# Altium schematic symbol library DiscreteSemiconductors.SchLib: 22 symbols (part 2 of 2)
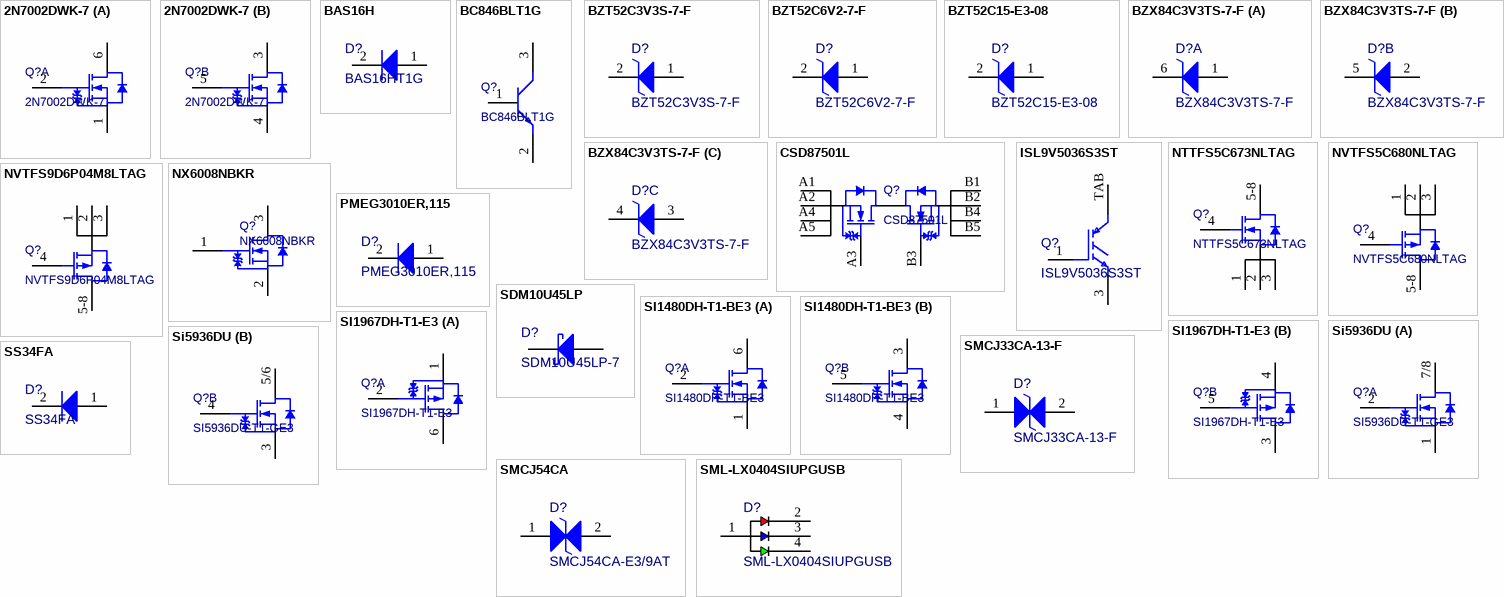
[diagram p1: symbols 2N7002DWK-7 to SS34FA]

## SDM10U45LP
designator D?, comment SDM10U45LP-7
DIODE SCHOTTKY 40V 100MA 2DFN / Rectifier Diode Schottky 45V 0.1A 2-Pin X1-DFN T/R; Manufacturer: Diodes Inc.; Value: 15pF; Element Configuration: Single; Forward Voltage: 550mV; Max Forward Surge Current (Ifsm): 1A; Max Power Dissipation: 250mW; Number of Elements: 1; Peak Reverse Current: 1µA; Polarity: Standard; Supplier 1: DigiKey; Supplier Part Number 1: SDM10U45LPDICT-ND; Supplier: DigiKey; Supplier Part Number: SDM10U45LPDICT-ND; Manufacturer Part Number: SDM10U45LP-7; RoHS: Compliant; Category: Schottky Diodes; Stock: 35493; Pricing: 1=0,42, 10=0,28, 100=0,2285, 500=0,17242, 1000=0,15127 (USD); Average Rectified Current: 100mA; Case/Package: DFN; China RoHS: Compliant; Current Rating: 100mA; Forward Current: 100mA; Height: 470µm; Lead Free: Lead Free; Length: 1mm; Lifecycle Status: Production; Max Operating Temperature: 125°C; Max Output current: 100mA; Max Repetitive Reverse Voltage (Vrrm): 45V; Max Reverse Voltage (DC): 40V; Min Operating Temperature: -40°C; Mounting Technology: Surface Mount; Pins: 2; Number of Terminals: 2; Output Current: 100mA; Packaging: Cut Tape; Peak Non-Repetitive Surge Current: 1A; Power Rating: 250mW; Radiation Hardening: No; REACH SVHC: Yes; Reverse Standoff Voltage: 45V; Schedule B: 8541100070, 8541100070|8541100070, 8541100070|8541100070|8541100070, 8541100070|8541100070|8541100070|8541100070; Voltage Rating (DC): 45V; Width: 600µm; ComponentLink1URL: https://datasheet.octopart.com:443/SDM10U45LP-7-Diodes-Inc.-datasheet-102813284.pdf?src-supplier=IHS; ComponentLink1Description: https://datasheet.octopart.com:443/SDM10U45LP-7-Diodes-Inc.-datasheet-102813284.pdf?src-supplier=IHS; ComponentLink2URL: https://datasheet.octopart.com/SDM10U45LP-7-Diodes-Inc.-datasheet-13703157.pdf; ComponentLink2Description: https://datasheet.octopart.com/SDM10U45LP-7-Diodes-Inc.-datasheet-13703157.pdf; ComponentLink3URL: https://datasheet.octopart.com:443/SDM10U45LP-7-Diodes-Inc.-datasheet-101745850.pdf?src-supplier=Future+Electronics; ComponentLink3Description: https://datasheet.octopart.com:443/SDM10U45LP-7-Diodes-Inc.-datasheet-101745850.pdf?src-supplier=Future+Electronics; ComponentLink4URL: https://sigma.octopart.com:443/138891837/technical_drawing/Diodes-Inc.-SDM10U45LP-7.pdf?src-supplier=Diodes+Inc+SCT; ComponentLink4Description: https://sigma.octopart.com:443/138891837/technical_drawing/Diodes-Inc.-SDM10U45LP-7.pdf?src-supplier=Diodes+Inc+SCT; ComponentLink5URL: https://datasheet.octopart.com:443/SDM10U45LP-7-Diodes-Inc.-datasheet-11796308.pdf?src-supplier=Arrow+Electronics; ComponentLink5Description: https://datasheet.octopart.com:443/SDM10U45LP-7-Diodes-Inc.-datasheet-11796308.pdf?src-supplier=Arrow+Electronics; ComponentLink6URL: https://datasheet.octopart.com:443/SDM10U45LP-7-Diodes-Inc.-datasheet-14053860.pdf?src-supplier=iiiC; ComponentLink6Description: https://datasheet.octopart.com:443/SDM10U45LP-7-Diodes-Inc.-datasheet-14053860.pdf?src-supplier=iiiC; ComponentLink7URL: https://datasheet.octopart.com:443/SDM10U45LP-7-Diodes-Inc.-datasheet-30023.pdf?src-supplier=DigiKey; ComponentLink7Description: https://datasheet.octopart.com:443/SDM10U45LP-7-Diodes-Inc.-datasheet-30023.pdf?src-supplier=DigiKey
footprint SOD-123 (SOD, 2-Leads, Body 2.69x1.6mm)
pins: 1, 2

## SI1480DH-T1-BE3
designator Q?
MOSFET N-CH 100V 2.1A/2.6A SC70; Manufacturer: Vishay; Supplier: Digikey; Supplier Part Number: 742-SI1480DH-T1-BE3CT-ND; Manufacturer Part Number: SI1480DH-T1-BE3; RoHS: No; Category: LDO; Stock: 2407; Pricing: 1=0,43, 10=0,335, 100=0,2723, 500=0,23268, 1000=0,20191 (USD); Supplier 1: Digikey; Supplier Part Number 1: 742-SI1480DH-T1-BE3CT-ND
footprint SOT-363 (6 pin, 2x2.1mm)
part A pins: 1 S1, 2 G1, 6 D1
part B pins: 3 D2, 4 S2, 5 G2

## SI1967DH-T1-E3
designator Q?
MOSFET 2P-CH 20V 1.3A SC70-6; Manufacturer: Vishay Siliconix; Rise Time: 27ns; Rds On Max: 490mR; Input Capacitance: 110pF; Gate to Source Voltage (Vgs): 8V; Max Power Dissipation: 1.25W; Turn-Off Delay Time: 15ns; Turn-On Delay Time: 12ns; Number of Channels: 2; Polarity: P-CHANNEL; Supplier 1: Digikey; Supplier Part Number 1: SI1967DH-T1-E3CT-ND; Supplier: Digikey; Supplier Part Number: SI1967DH-T1-E3CT-ND; Manufacturer Part Number: SI1967DH-T1-E3; RoHS: No; Category: MOSFETs; Stock: 6717; Pricing: 1=0,66, 10=0,409, 100=0,2622, 500=0,19876, 1000=0,16922 (USD); Mounting Technology: Surface Mount; Weight: 0.000988oz; Min Operating Temperature: -55°C; Max Operating Temperature: 150°C; Packaging: Tape and Reel; Package Quantity: 3000; Continuous Drain Current (ID): 1.3A; Drain to Source Resistance: 490mR; Fall Time: 27ns; Drain to Source Voltage (Vdss): 20V; Series: TrenchFET®; Length: 2mm; Width: 1.25mm; Height: 1mm; Radiation Hardening: No; Lead Free: Lead Free; RoHS Compliant: Yes; ComponentLink1URL: https://datasheet.ciiva.com/930/si1967dh-930084.pdf?src-supplier=Digikey; ComponentLink1Description: https://datasheet.ciiva.com/930/si1967dh-930084.pdf?src-supplier=Digikey; ComponentLink2URL: https://datasheet.ciiva.com/11161/si1967dh-11161099.pdf?src-supplier=Avnet; ComponentLink2Description: https://datasheet.ciiva.com/11161/si1967dh-11161099.pdf?src-supplier=Avnet
footprint SOT-363 (6 pin, 2x2.1mm)
part A pins: 1 S, 2 G, 6 D
part B pins: 3 D, 4 S, 5 G

## Si5936DU
designator Q?, comment SI5936DU-T1-GE3
SI5936DU-T1-GE3 Dual N-channel Mosfet Transistor, 6 A, 30V, 8-PIN Powerpak Chipfet; Manufacturer: Vishay; Continuous Drain Current (ID): 6A; Drain to Source Resistance: 30mΩ; Fall Time: 10ns; Gate to Source Voltage (Vgs): 20V; Input Capacitance: 320pF; Max Power Dissipation: 2.3W; Number of Elements: 2; Rise Time: 65ns; Turn-Off Delay Time: 15ns; Supplier 1: DigiKey; Supplier Part Number 1: SI5936DU-T1-GE3CT-ND; Supplier: DigiKey; Supplier Part Number: SI5936DU-T1-GE3CT-ND; Manufacturer Part Number: SI5936DU-T1-GE3; RoHS: Compliant; Category: MOSFETs; Stock: 5251; Pricing: 1=1,04, 10=0,651, 100=0,4257, 500=0,32864, 1000=0,29737 (USD); Contact Plating: Tin; Drain to Source Voltage (Vdss): 30V; Height: 850µm; Length: 3.08mm; Lifecycle Status: Production; Max Operating Temperature: 150°C; Min Breakdown Voltage: 30V; Min Operating Temperature: -55°C; Mounting Technology: Surface Mount; Pins: 8; Number of Terminals: 6; Packaging: Digi-Reel®; Power Dissipation: 2.3W; Rds On Max: 30mΩ; REACH SVHC: Yes; Schedule B: 8541290080, 8541290080|8541290080|8541290080|8541290080|8541290080; Turn-On Delay Time: 15ns; Width: 1.98mm; ComponentLink1URL: https://datasheet.octopart.com:443/SI5936DU-T1-GE3-Vishay-datasheet-181472184.pdf?src-supplier=IHS; ComponentLink1Description: https://datasheet.octopart.com:443/SI5936DU-T1-GE3-Vishay-datasheet-181472184.pdf?src-supplier=IHS; ComponentLink2URL: https://datasheet.octopart.com:443/SI5936DU-T1-GE3-Vishay-Siliconix-datasheet-62309622.pdf?src-supplier=RS+(Formerly+Allied+Electronics); ComponentLink2Description: https://datasheet.octopart.com:443/SI5936DU-T1-GE3-Vishay-Siliconix-datasheet-62309622.pdf?src-supplier=RS+(Formerly+Allied+Electronics); ComponentLink3URL: https://datasheet.octopart.com:443/SI5936DU-T1-GE3-Vishay-datasheet-41308924.pdf?src-supplier=Future+Electronics; ComponentLink3Description: https://datasheet.octopart.com:443/SI5936DU-T1-GE3-Vishay-datasheet-41308924.pdf?src-supplier=Future+Electronics; ComponentLink4URL: http://sigma.octopart.com:80/rohs_statement/Vishay-company-15.pdf?src-supplier=Compliance+Statements; ComponentLink4Description: http://sigma.octopart.com:80/rohs_statement/Vishay-company-15.pdf?src-supplier=Compliance+Statements
footprint ChipFET-8-dual (PowerPAK® ChipFET® Dual, 1.9x3mm)
part A pins: 1 S1, 2 G1, 7/8 D1
part B pins: 3 S2, 4 G2, 5/6 D2

## SMCJ33CA-13-F
designator D?
TVS DIODE 33VWM 53.3VC SMC; Manufacturer: Diodes; ComponentLink1URL: https://datasheet.ciiva.com/15143/getdatasheetpartid-128184-15143616.pdf?src-supplier=Verical; ComponentLink1Description: https://datasheet.ciiva.com/15143/getdatasheetpartid-128184-15143616.pdf?src-supplier=Verical; ComponentLink2URL: https://datasheet.ciiva.com/339/cd00001367-339200.pdf?src-supplier=Digi-Key; ComponentLink2Description: https://datasheet.ciiva.com/339/cd00001367-339200.pdf?src-supplier=Digi-Key; ComponentLink3URL: https://datasheet.ciiva.com/339/cd00001367-339201.pdf?src-supplier=Digi-Key; ComponentLink3Description: https://datasheet.ciiva.com/339/cd00001367-339201.pdf?src-supplier=Digi-Key; ComponentLink4URL: https://datasheet.ciiva.com/16349/cd00001367-16349254.pdf?src-supplier=Future+Electronics; ComponentLink4Description: https://datasheet.ciiva.com/16349/cd00001367-16349254.pdf?src-supplier=Future+Electronics; ComponentLink5URL: https://datasheet.ciiva.com/7973/cd00001367-7973623.pdf?src-supplier=Element14; ComponentLink5Description: https://datasheet.ciiva.com/7973/cd00001367-7973623.pdf?src-supplier=Element14; ComponentLink6URL: https://datasheet.ciiva.com/17400/cd00001367-17400765.pdf?src-supplier=Avnet+Europe; ComponentLink6Description: https://datasheet.ciiva.com/17400/cd00001367-17400765.pdf?src-supplier=Avnet+Europe; ComponentLink7URL: https://datasheet.ciiva.com/339/cd00001367-339199.pdf?src-supplier=Digi-Key; ComponentLink7Description: https://datasheet.ciiva.com/339/cd00001367-339199.pdf?src-supplier=Digi-Key; ComponentLink8URL: https://datasheet.ciiva.com/41443/001183976-da-01-en-transil-1500w-3-smcj30ca-tr-do-214ab-stm-41443381.pdf?src-supplier=Conrad; ComponentLink8Description: https://datasheet.ciiva.com/41443/001183976-da-01-en-transil-1500w-3-smcj30ca-tr-do-214ab-stm-41443381.pdf?src-supplier=Conrad; Supplier 1: Digikey; Supplier Part Number 1: SMCJ33CA-FDICT-ND; Supplier: Farnell; Supplier Part Number: 3405098; Manufacturer Part Number: SMCJ33CA-13-F; RoHS: Yes; Category: TVS Diodes; Stock: 3845; ComponentLink9URL: http://www.mouser.com/ds/2/115/ds19003-73575.pdf?src-supplier=Mouser; ComponentLink9Description: http://www.mouser.com/ds/2/115/ds19003-73575.pdf?src-supplier=Mouser; ComponentLink10URL: http://components.arrow.com/part/dataview/41510117S9851208N2867?src-supplier=Arrow+Electronics; ComponentLink10Description: http://components.arrow.com/part/dataview/41510117S9851208N2867?src-supplier=Arrow+Electronics; ComponentLink11URL: http://www.diodes.com/_files/datasheets/ds19003.pdf?src-supplier=Future+Electronics; ComponentLink11Description: http://www.diodes.com/_files/datasheets/ds19003.pdf?src-supplier=Future+Electronics; ComponentLink12URL: https://www.diodes.com/assets/Datasheets/ds19003.pdf?src-supplier=Digikey; ComponentLink12Description: https://www.diodes.com/assets/Datasheets/ds19003.pdf?src-supplier=Digikey; ComponentLink13URL: https://datasheet.octopart.com/SMCJ33CA-13-F-Diodes-Inc.-datasheet-6912.pdf?src-supplier=Digikey; ComponentLink13Description: https://datasheet.octopart.com/SMCJ33CA-13-F-Diodes-Inc.-datasheet-6912.pdf?src-supplier=Digikey; ComponentLink14URL: http://www.diodes.com///datasheets/ds19003.pdf?src-supplier=Avnet; ComponentLink14Description: http://www.diodes.com///datasheets/ds19003.pdf?src-supplier=Avnet; ComponentLink15URL: http://www.diodes.com//datasheets/ds19003.pdf?src-supplier=Avnet; ComponentLink15Description: http://www.diodes.com//datasheets/ds19003.pdf?src-supplier=Avnet; ComponentLink16URL: https://datasheet.octopart.com/SMCJ33CA-13-F-Diodes-Inc.-datasheet-130126529.pdf?src-supplier=TME; ComponentLink16Description: https://datasheet.octopart.com/SMCJ33CA-13-F-Diodes-Inc.-datasheet-130126529.pdf?src-supplier=TME
footprint SMCJ_UNIPOLAR (DO-214AB, SMC)
pins: 1, 2

## SMCJ54CA
designator D?, comment SMCJ54CA-E3/9AT
Trans Voltage Suppressor Diode, 1500W, 54V V(RWM), Bidirectional, 1 Element, Silicon, DO-214AB; Manufacturer: Vishay; Breakdown Voltage: 63.15V; Clamping Voltage: 87.1V; Element Configuration: Single; Leakage Current: 1µA; Max Breakdown Voltage: 66.3V; Max Junction Temperature (Tj): 150°C; Max Power Dissipation: 6.5W; Max Surge Current: 200A; Min Breakdown Voltage: 60V; Number of Bidirectional Channels: 1; Peak Pulse Current: 17.2A; Peak Pulse Power: 1.5kW; Power Line Protection: No; Test Current: 1mA; Supplier 1: DigiKey; Supplier Part Number 1: SMCJ54CA-E3/9AT-ND; Supplier: DigiKey; Supplier Part Number: SMCJ54CA-E3/9AT-ND; Manufacturer Part Number: SMCJ54CA-E3/9AT; RoHS: Compliant; Category: TVS Diodes; Pricing: 3500=0,181, 24500=0,1805 (USD); Case/Package: SMC; China RoHS: Non-Compliant; Composition: Zener; Direction: Bidirectional; Height: 2.62mm; Lifecycle Status: Production; Max Operating Temperature: 150°C; Max Reverse Leakage Current: 1µA; Min Operating Temperature: -55°C; Mounting Technology: Surface Mount; Number of Channels: 1; Number of Elements: 1; Pins: 2; Number of Terminals: 2; Operating Supply Voltage: 54V; Polarity: Bidirectional; REACH SVHC: No; Reverse Breakdown Voltage: 60V; Reverse Standoff Voltage: 54V; ComponentLink1URL: https://datasheet.octopart.com:443/SMCJ54CA-E3-9AT-Vishay-datasheet-164762082.pdf?src-supplier=IHS; ComponentLink1Description: https://datasheet.octopart.com:443/SMCJ54CA-E3-9AT-Vishay-datasheet-164762082.pdf?src-supplier=IHS; ComponentLink2URL: https://datasheet.octopart.com:443/SMCJ54CA-E3-9AT-Vishay-Semiconductor-datasheet-138899015.pdf?src-supplier=Upverter; ComponentLink2Description: https://datasheet.octopart.com:443/SMCJ54CA-E3-9AT-Vishay-Semiconductor-datasheet-138899015.pdf?src-supplier=Upverter; ComponentLink3URL: https://sigma.octopart.com:443/138898641/technical_drawing/Vishay-Semiconductor-SMCJ54CA-E3-9AT.pdf?src-supplier=Upverter; ComponentLink3Description: https://sigma.octopart.com:443/138898641/technical_drawing/Vishay-Semiconductor-SMCJ54CA-E3-9AT.pdf?src-supplier=Upverter; ComponentLink4URL: https://datasheet.octopart.com:443/SMCJ54CA-E3/9AT-Vishay-datasheet-11546720.pdf?src-supplier=Arrow+Electronics; ComponentLink4Description: https://datasheet.octopart.com:443/SMCJ54CA-E3/9AT-Vishay-datasheet-11546720.pdf?src-supplier=Arrow+Electronics; ComponentLink5URL: http://sigma.octopart.com:80/rohs_statement/Vishay-company-15.pdf?src-supplier=Compliance+Statements; ComponentLink5Description: http://sigma.octopart.com:80/rohs_statement/Vishay-company-15.pdf?src-supplier=Compliance+Statements
footprint SMCJ_UNIPOLAR (DO-214AB, SMC)
pins: 1, 2

## SML-LX0404SIUPGUSB
designator D?
LED Tri-Color Blue/Green/Red 468nm/518nm/632nm 4-Pin SMD T/R; Manufacturer: Lumex; Color: Blue, Green, Red; Forward Current: 30mA; Forward Voltage: 2.73V; Lens Color: Clear, Colorless; Lens Style: Clear, Rectangular, Square; Lens Transparency: Clear; Luminous Intensity: 20mcd; Number of Circuits: 1; Number of LEDs: 3; Power Rating: 30mW; Reverse Voltage: 5V; Shape: Square; Test Current: 2mA; Viewing Angle: 120°; Wavelength: 465nm; Supplier 1: DigiKey; Supplier Part Number 1: 67-2125-1-ND; Supplier: DigiKey; Supplier Part Number: 67-2125-1-ND; Manufacturer Part Number: SML-LX0404SIUPGUSB; RoHS: Compliant; Category: LEDs; Stock: 85374; Pricing: 1=1,06, 10=0,743, 100=0,5504, 500=0,4646, 1000=0,43654 (USD); Case/Package: 0404; Case Code (Imperial): 0404; Case Code (Metric): 1010; China RoHS: Compliant; Height: 250µm; Lead Free: Lead Free; Length: 1mm; Lifecycle Status: Production; Max Operating Temperature: 85°C; Min Operating Temperature: -40°C; Mounting Technology: Surface Mount; Number of Terminals: 4; Packaging: Cut Tape; REACH SVHC: Yes; Schedule B: 8541402000; Width: 1mm; ComponentLink1URL: https://datasheet.octopart.com:443/SML-LX0404SIUPGUSB-Lumex-datasheet-180611911.pdf?src-supplier=IHS; ComponentLink1Description: https://datasheet.octopart.com:443/SML-LX0404SIUPGUSB-Lumex-datasheet-180611911.pdf?src-supplier=IHS; ComponentLink2URL: https://datasheet.octopart.com:443/SML-LX0404SIUPGUSB-Lumex-datasheet-43153159.pdf?src-supplier=Upverter; ComponentLink2Description: https://datasheet.octopart.com:443/SML-LX0404SIUPGUSB-Lumex-datasheet-43153159.pdf?src-supplier=Upverter; ComponentLink3URL: https://datasheet.octopart.com:443/SML-LX0404SIUPGUSB-Lumex-datasheet-21230143.pdf?src-supplier=element14+APAC; ComponentLink3Description: https://datasheet.octopart.com:443/SML-LX0404SIUPGUSB-Lumex-datasheet-21230143.pdf?src-supplier=element14+APAC; ComponentLink4URL: https://datasheet.octopart.com:443/SML-LX0404SIUPGUSB-Lumex-datasheet-28835211.pdf?src-supplier=element14+APAC; ComponentLink4Description: https://datasheet.octopart.com:443/SML-LX0404SIUPGUSB-Lumex-datasheet-28835211.pdf?src-supplier=element14+APAC; ComponentLink5URL: https://datasheet.octopart.com:443/SML-LX0404SIUPGUSB-Lumex-datasheet-62120010.pdf?src-supplier=Master+Electronics; ComponentLink5Description: https://datasheet.octopart.com:443/SML-LX0404SIUPGUSB-Lumex-datasheet-62120010.pdf?src-supplier=Master+Electronics; ComponentLink6URL: https://datasheet.octopart.com:443/SML-LX0404SIUPGUSB-Lumex-datasheet-139013812.pdf?src-supplier=TME; ComponentLink6Description: https://datasheet.octopart.com:443/SML-LX0404SIUPGUSB-Lumex-datasheet-139013812.pdf?src-supplier=TME; ComponentLink7URL: https://datasheet.octopart.com:443/SML-LX0404SIUPGUSB-Lumex-datasheet-33469811.pdf?src-supplier=RS+(Formerly+Allied+Electronics); ComponentLink7Description: https://datasheet.octopart.com:443/SML-LX0404SIUPGUSB-Lumex-datasheet-33469811.pdf?src-supplier=RS+(Formerly+Allied+Electronics); ComponentLink8URL: https://datasheet.octopart.com:443/SML-LX0404SIUPGUSB-Lumex-datasheet-12537431.pdf?src-supplier=Future+Electronics; ComponentLink8Description: https://datasheet.octopart.com:443/SML-LX0404SIUPGUSB-Lumex-datasheet-12537431.pdf?src-supplier=Future+Electronics
footprint LED_SML-LX0404_LUM
pins: 1 A, 2 R, 3 B, 4 G

## SS34FA
designator D?
DIODE SCHOTTKY 40V 3A SOD123FA; Manufacturer: onsemi; Element Configuration: Single; Max Forward Surge Current (Ifsm): 80A; Value: 152pF; Max Reverse Current: 500uA; Supplier: Digikey; Supplier Part Number: SS34FACT-ND; Manufacturer Part Number: SS34FA; RoHS: Yes; Category: Schottky Diodes; Stock: 15253; Pricing: 1=0,36, 10=0,333, 100=0,2863, 500=0,21774, 1000=0,1861 (USD); Mounting Technology: Surface Mount; Case/Package: SOD; Weight: 0.019g; Min Operating Temperature: -55°C; Max Operating Temperature: 125°C; Average Rectified Current: 3A; Max Reverse Voltage (DC): 40V; Series: Automotive, AEC-Q101; Packaging: Cut Tape; Max Repetitive Reverse Voltage (Vrrm): 40V; Forward Current: 3A; Reverse Voltage: 40V; Height: 1.43mm; RoHS Compliant: Yes; ComponentLink1URL: http://www.farnell.com/datasheets/2552647.pdf?src-supplier=Farnell; ComponentLink1Description: http://www.farnell.com/datasheets/2552647.pdf?src-supplier=Farnell; ComponentLink2URL: http://www.mouser.com/ds/2/149/SS34FA-1012641.pdf?src-supplier=Mouser; ComponentLink2Description: http://www.mouser.com/ds/2/149/SS34FA-1012641.pdf?src-supplier=Mouser; ComponentLink3URL: http://www.farnell.com/datasheets/2552647.pdf?src-supplier=Element14; ComponentLink3Description: http://www.farnell.com/datasheets/2552647.pdf?src-supplier=Element14; ComponentLink4URL: http://www.farnell.com/datasheets/2552647.pdf?src-supplier=Newark; ComponentLink4Description: http://www.farnell.com/datasheets/2552647.pdf?src-supplier=Newark; ComponentLink5URL: https://datasheet.octopart.com/SS34FA-ON-Semiconductor-datasheet-137713515.pdf?src-supplier=TME; ComponentLink5Description: https://datasheet.octopart.com/SS34FA-ON-Semiconductor-datasheet-137713515.pdf?src-supplier=TME; ComponentLink6URL: https://datasheet.octopart.com/SS34FA-ON-Semiconductor-datasheet-137362515.pdf?src-supplier=Electro+Sonic; ComponentLink6Description: https://datasheet.octopart.com/SS34FA-ON-Semiconductor-datasheet-137362515.pdf?src-supplier=Electro+Sonic; Supplier 1: Digikey; Supplier Part Number 1: SS34FACT-ND
footprint SOD-123 (SOD, 2-Leads, Body 2.69x1.6mm)
pins: 1, 2